# Altium footprint library QFN50P300X300X100-13N-D.PcbLib: 1 footprints
Each footprint in its own frame and in the unit in brackets; x right, y up, seen from the top. Pads: shape width x height; smd on the part's side, far side on the other; paste and mask are expansions set on the pad; w line width, h text height; cw(c..) or ccw(c..) is an arc to the next point about the centre after c.
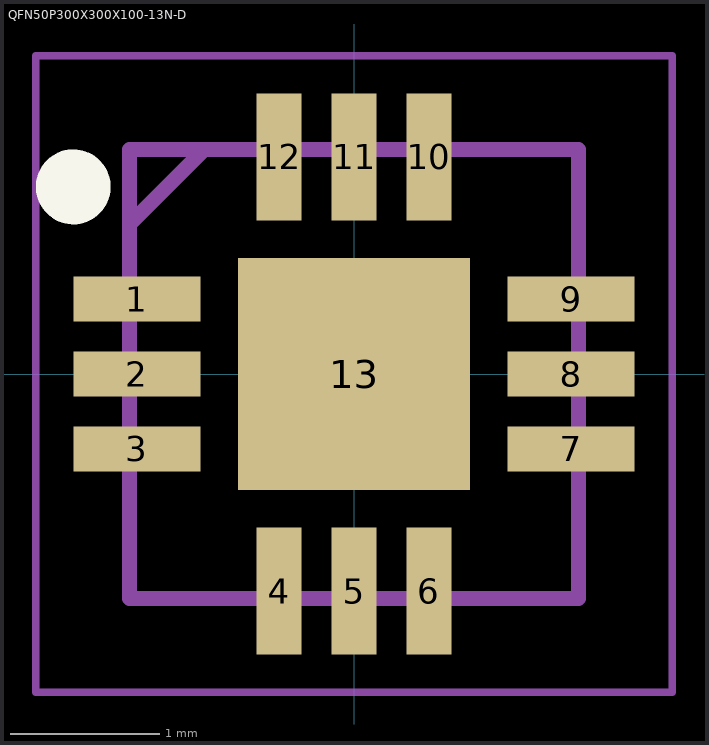
[diagram p0: the footprint, top view; thin cyan lines are the x and y axes]

## QFN50P300X300X100-13N-D [mm]
pads (13):
  rect 0.85x0.3 smd: 1(-1.45,0.5) 2(-1.45,0) 3(-1.45,-0.5) 7(1.45,-0.5) 8(1.45,0) 9(1.45,0.5)
  rect 0.3x0.85 smd: 4(-0.5,-1.45) 5(0,-1.45) 6(0.5,-1.45) 10(0.5,1.45) 11(0,1.45) 12(-0.5,1.45)
  rect 1.55x1.55 smd: 13(0,0)
Top Overlay:
  circle w0.25: c-1.875,1.25 r0.125
Mechanical 15:
  lines w0.1: -1.5,1 -1,1.5 ; -1.5,-1.5 1.5,-1.5 1.5,1.5 -1.5,1.5 -1.5,-1.5
Mechanical 20:
  lines w0.05: -2.125,-2.125 2.125,-2.125 2.125,2.125 -2.125,2.125 -2.125,-2.125
3D body "TCPP01-M12.stp": height 1, standoff 0, extent -1.55,-1.55 1.55,1.55